# EAGLE library part PINHEADER_1.27_2X26 (library added_parts)
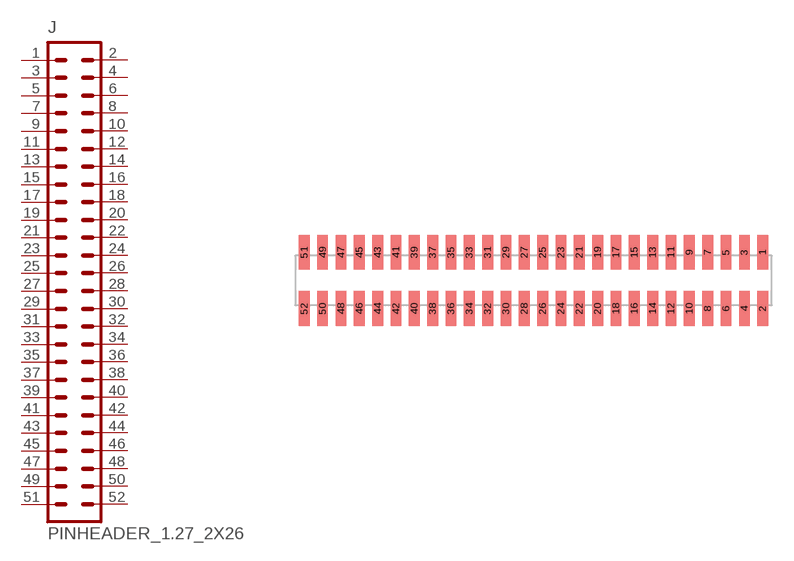
[diagram p38: symbol with the pads of HEADER_1.27MM_2X26; footprint HEADER_1.27MM_2X26]

Designator prefix J

## PINHEADER_1.27_2X26  [HEADER_1.27MM_2X26]
1  1  pas
2  2  pas
3  3  pas
4  4  pas
5  5  pas
6  6  pas
7  7  pas
8  8  pas
9  9  pas
10  10  pas
11  11  pas
12  12  pas
13  13  pas
14  14  pas
15  15  pas
16  16  pas
17  17  pas
18  18  pas
19  19  pas
20  20  pas
21  21  pas
22  22  pas
23  23  pas
24  24  pas
25  25  pas
26  26  pas
27  27  pas
28  28  pas
29  29  pas
30  30  pas
31  31  pas
32  32  pas
33  33  pas
34  34  pas
35  35  pas
36  36  pas
37  37  pas
38  38  pas
39  39  pas
40  40  pas
41  41  pas
42  42  pas
43  43  pas
44  44  pas
45  45  pas
46  46  pas
47  47  pas
48  48  pas
49  49  pas
50  50  pas
51  51  pas
52  52  pas

## Footprint HEADER_1.27MM_2X26 (pad centres in mm)
smd 0.74 x 2.4: 1 15.875,1.95; 2 15.875,-1.95; 3 14.605,1.95; 4 14.605,-1.95; 5 13.335,1.95; 6 13.335,-1.95; 7 12.065,1.95; 8 12.065,-1.95; 9 10.795,1.95; 10 10.795,-1.95; 11 9.525,1.95; 12 9.525,-1.95; 13 8.255,1.95; 14 8.255,-1.95; 15 6.985,1.95; 16 6.985,-1.95; 17 5.715,1.95; 18 5.715,-1.95; 19 4.445,1.95; 20 4.445,-1.95; 21 3.175,1.95; 22 3.175,-1.95; 23 1.905,1.95; 24 1.905,-1.95; 25 0.635,1.95; 26 0.635,-1.95; 27 -0.635,1.95; 28 -0.635,-1.95; 29 -1.905,1.95; 30 -1.905,-1.95; 31 -3.175,1.95; 32 -3.175,-1.95; 33 -4.445,1.95; 34 -4.445,-1.95; 35 -5.715,1.95; 36 -5.715,-1.95; 37 -6.985,1.95; 38 -6.985,-1.95; 39 -8.255,1.95; 40 -8.255,-1.95; 41 -9.525,1.95; 42 -9.525,-1.95; 43 -10.795,1.95; 44 -10.795,-1.95; 45 -12.065,1.95; 46 -12.065,-1.95; 47 -13.335,1.95; 48 -13.335,-1.95; 49 -14.605,1.95; 50 -14.605,-1.95; 51 -15.875,1.95; 52 -15.875,-1.95